# Altium footprint library PCP_ANT1.PcbLib: 11 footprints
Each footprint in its own frame and in the unit in brackets; x right, y up, seen from the top. Pads: shape width x height; smd on the part's side, far side on the other; paste and mask are expansions set on the pad; w line width, h text height; cw(c..) or ccw(c..) is an arc to the next point about the centre after c.
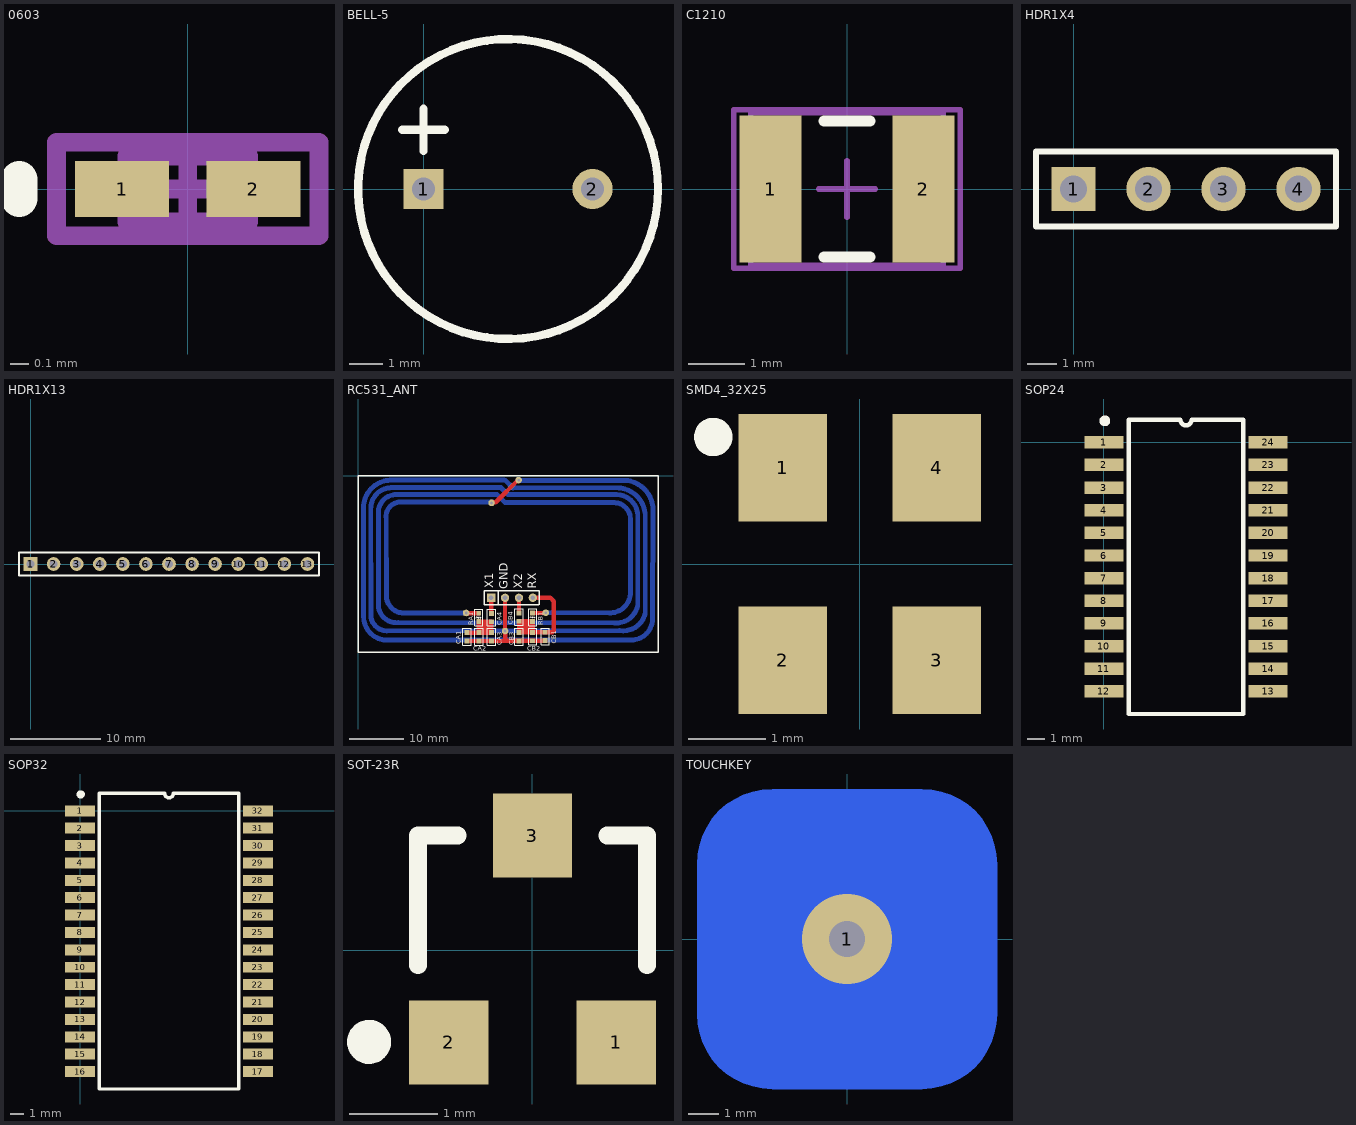
[diagram p0: the footprints below, top view; thin cyan lines are the x and y axes]

## 0603 [mm]
pads (2):
  rect 0.5x0.3 smd: 1(-0.35,0) 2(0.35,0)
Top Overlay:
  lines w0.2: -0.9,-0.05 -0.9,0.05
Mechanical 13:
  lines w0.1: -0.325,-0.175 0.325,-0.175 0.325,0.175 -0.325,0.175 -0.325,-0.175
Mechanical 15:
  lines w0.1: -0.175,0 0.175,0 ; 0,-0.175 0,0.175 ; -0.7,-0.25 0.7,-0.25 0.7,0.25 -0.7,0.25 -0.7,-0.25
3D body: height 0.55, standoff 0, extent -0.325,-0.175 0.325,0.175

## BELL-5 [mm]
pads (2):
  rect 1.2x1.2 hole 0.7: 1(0,0)
  round 1.2 hole 0.7: 2(5.08,0)
Top Overlay:
  circle w0.254: c2.54,0 r4.51
  lines w0.254: -0.635,1.778 0.635,1.778 ; 0,1.143 0,2.413

## C1210 [mm]
pads (2):
  rect 1.1x2.6 smd: 1(-1.35,0) 2(1.35,0)
Top Overlay:
  lines w0.2: -0.4,-1.2 0.4,-1.2 ; -0.4,1.2 0.4,1.2
Mechanical 13:
  lines w0.1: -1.7,-1.35 -1.7,1.35 1.7,1.35 1.7,-1.35 -1.7,-1.35
Mechanical 15:
  lines w0.1: -0.5,0 0.5,0 ; 0,-0.5 0,0.5 ; -2,-1.4 -2,1.4 2,1.4 2,-1.4 -2,-1.4
3D body: height 1.3, standoff 0, extent -1.7,-1.35 1.7,1.35

## HDR1X4 [mm]
pads (4):
  rect 1.5x1.5 hole 0.9: 1(0,0)
  round 1.5 hole 0.9: 2(2.54,0) 3(5.08,0) 4(7.62,0)
Top Overlay:
  lines w0.2: -1.27,-1.27 8.89,-1.27 8.89,1.27 -1.27,1.27 -1.27,-1.27

## HDR1X13 [mm]
pads (13):
  rect 1.5x1.5 hole 0.9: 1(0,0)
  round 1.5 hole 0.9: 2(2.54,0) 3(5.08,0) 4(7.62,0) 5(10.16,0) 6(12.7,0) 7(15.24,0) 8(17.78,0) 9(20.32,0) 10(22.86,0) 11(25.4,0) 12(27.94,0) 13(30.48,0)
Top Overlay:
  lines w0.2: -1.27,-1.27 31.75,-1.27 31.75,1.27 0.635,1.27 -1.27,1.27 -1.27,-1.27

## RC531_ANT [mil]
pads (29):
  rect 35x35 smd: 1(784.74,-1188.93) 1(869.08,-1049.93) 1(870.74,-1188.93) 1(959.74,-1188.93) 1(959.74,-1050.93) 1(1159.1,-1188.51) 1(1159.1,-1047.51) 1(1257.1,-1187.51) 1(1257.1,-1048.02) 1(1347.1,-1186.51) 2(784.74,-1128.93) 2(869.08,-989.93) 2(870.74,-1128.93) 2(959.74,-1128.93) 2(959.74,-990.93) 2(1159.1,-1128.51) 2(1159.1,-987.51) 2(1257.1,-1127.51) 2(1257.1,-988.02) 2(1347.1,-1126.51)
  round 47.24 hole 19.68: 3(778.1,-987.51) 3(1351.1,-985.51) 4(961.1,-195.46) 5(1156.1,-31.46) 6(1058.24,-1117.51)
  rect 60x60 hole 35: 10(958.24,-878.32)
  round 60 hole 35: 11(1058.24,-878.32) 12(1158.24,-878.32) 13(1258.1,-878.02)
Top Layer:
  rectangle: 880.09,-1128.92 949.09,-1050.92
  rectangle: 1168.07,-1117.51 1257.07,-1056.51
  lines w31.5: 780.52,-989.93 869.08,-989.93 ; 784.74,-1188.93 1058.68,-1188.93 ; 784.74,-1128.93 959.74,-1128.93 959.74,-1050.93 870.08,-1050.93 869.08,-1049.93 869.08,-1127.27 870.74,-1128.93 ; 960.1,-987.51 960.1,-895.67 ; 974.1,-190.97 990.84,-190.97 1147.84,-33.97 ; 1058.1,-1134.02 1058.24,-1133.87 1058.24,-878.32 ; 1058.24,-1188.49 1058.68,-1188.93 ; 1058.68,-1134.32 1058.68,-1188.93 ; 1158.24,-986.65 1158.24,-878.32 ; 1256.6,-1047.51 1159.1,-1047.51 1159.1,-1128.51 1161.1,-1126.51 1347.1,-1126.51 1400.1,-1126.51 1409.1,-1117.51 1409.1,-902.51 1384.6,-878.02 1258.1,-878.02 ; 1257.1,-1127.51 1257.1,-1048.02 ; 1257.1,-988.02 1348.6,-988.02 ; 1347.1,-1186.51 1345.1,-1188.51 1159.1,-1188.51 1059.1,-1188.51 1058.68,-1188.93
Bottom Layer:
  lines w10: 1351.1,-985.51 1351.6,-986.02
  lines w31.5: 1351.6,-986.02 1796.53,-986.02
  lines w35.43: 778.1,-987.51 329.18,-987.51 cw(c329.23,-862.18) 203.9,-862.13 203.06,-307.97 cw(c306.08,-292.99) 291.1,-189.97 973.1,-189.97 ; 1001.1,-135.97 264.1,-135.97 ccw(c275.01,-263.98) 147,-274.9 146.73,-939.44 ccw(c276.99,-926.72) 289.72,-1056.98 1832.7,-1057.96 ccw(c1858.55,-902.99) 2013.52,-928.84 2013.52,-280.46 ccw(c1858.78,-290.72) 1848.53,-135.97 ; 1003.1,-137.97 1052.1,-186.97 ; 1051.1,-31.97 1028.1,-31.97 230,-31.97 ccw(c238.28,-230.25) 40,-238.53 40.3,-1015.95 ccw(c210.15,-1013.1) 213,-1182.95 1968.47,-1182.95 ccw(c1964.38,-1027.67) 2119.66,-1023.58 2122.26,-222.97 ccw(c1908.26,-247.97) 1883.26,-33.97 1147.84,-33.97 ; 1057.73,-193.46 1130.1,-193.46 1846.53,-193.46 cw(c1841.53,-312.46) 1960.52,-317.46 1960.52,-854.02 cw(c1812.52,-838.02) 1796.53,-986.02 ; 1060.1,-32.97 1115.1,-87.97 ; 1079.1,-135.97 1029.1,-85.97 239,-85.97 ccw(c240.78,-234.75) 92,-236.53 92.3,-1011.44 ccw(c207.48,-1000.47) 218.45,-1115.65 1882.52,-1113.38 ccw(c1910.44,-956.3) 2067.52,-984.21 2067.52,-280.46 ccw(c1860.03,-293.96) 1846.53,-86.46 1117.1,-86.46 ; 1094.1,-135.97 1118.1,-135.97 1848.52,-135.97
Top Overlay:
  lines w4: 851.08,-1024.93 856.08,-1014.93 866.08,-1024.93 871.08,-1014.93 881.08,-1024.93 886.08,-1014.93 ; 1239.1,-1023.02 1244.1,-1013.02 1254.1,-1023.02 1259.1,-1013.02 1269.1,-1023.02 1274.1,-1013.02
  lines w6: 754.74,-1218.93 754.74,-1098.93 814.74,-1098.93 814.74,-1218.93 754.74,-1218.93 ; 839.08,-1079.93 839.08,-959.93 899.08,-959.93 899.08,-1079.93 839.08,-1079.93 ; 840.74,-1218.93 840.74,-1098.93 900.74,-1098.93 900.74,-1218.93 840.74,-1218.93 ; 929.74,-1218.93 929.74,-1098.93 989.74,-1098.93 989.74,-1218.93 929.74,-1218.93 ; 929.74,-1080.93 929.74,-960.93 989.74,-960.93 989.74,-1080.93 929.74,-1080.93 ; 1129.1,-1218.51 1129.1,-1098.51 1189.1,-1098.51 1189.1,-1218.51 1129.1,-1218.51 ; 1129.1,-1077.51 1129.1,-957.51 1189.1,-957.51 1189.1,-1077.51 1129.1,-1077.51 ; 1227.1,-1217.51 1227.1,-1097.51 1287.1,-1097.51 1287.1,-1217.51 1227.1,-1217.51 ; 1227.1,-1078.02 1227.1,-958.02 1287.1,-958.02 1287.1,-1078.02 1227.1,-1078.02 ; 1317.1,-1216.51 1317.1,-1096.51 1377.1,-1096.51 1377.1,-1216.51 1317.1,-1216.51
  lines w10: 289.1,-1270.02 1076.1,-1270.02 ; 1008.24,-928.32 1008.24,-828.32 ; 1208.24,-828.32 908.24,-828.32 908.24,-928.32 1208.24,-928.32 1298.8,-928.32 1300.1,-927.02 ; 1208.54,-828.02 1305.1,-828.02 1305.1,-928.02 ; 0,-1270.02 0,0 2158.13,0 2159.03,-0.9 2159.03,-1270.02 0,-1270.02
  text "X1" at 973.1,-810.02 h60
  text "GND" at 1079.1,-816.02 h60
  text "X2" at 1182.1,-813.02 h60
  text "RX" at 1283.1,-812.02 h60
  text "CA1" at 740.1,-1211.51 h35.43
  text "RA1" at 829.1,-1075.51 h35.43
  text "CA4" at 1034.1,-1074.51 h35.43
  text "CA3" at 1036.1,-1220.51 h35.43
  text "CB3" at 1120.1,-1219.51 h35.43
  text "CB4" at 1113.1,-1070.51 h35.43
  text "RB1" at 1330.1,-1074.51 h35.43
  text "CB1" at 1425.1,-1207.51 h35.43
  text "CA2" at 829.1,-1258.51 h35.43
  text "CB2" at 1219.1,-1258.51 h35.43

## SMD4_32X25 [mm]
pads (4):
  rect 1.15x1.4 smd: 1(-1,1.25) 2(-1,-1.25) 3(1,-1.25) 4(1,1.25)
Top Overlay:
  circle w0.25: c-1.903,1.651 r0.125

## SOP24 [mm]
pads (24):
  rect 2.2x0.7 smd: 1(0,0) 2(0,-1.27) 3(0,-2.54) 4(0,-3.81) 5(0,-5.08) 6(0,-6.35) 7(0,-7.62) 8(0,-8.89) 9(0,-10.16) 10(0,-11.43) 11(0,-12.7) 12(0,-13.97) 13(9.2,-13.97) 14(9.2,-12.7) 15(9.2,-11.43) 16(9.2,-10.16) 17(9.2,-8.89) 18(9.2,-7.62) 19(9.2,-6.35) 20(9.2,-5.08) 21(9.2,-3.81) 22(9.2,-2.54) 23(9.2,-1.27) 24(9.2,0)
Top Overlay:
  circle w0.3: c0.05,1.2 r0.15
  lines w0.25: 1.4,-15.235 1.4,1.265 4.282,1.265 ccw(c4.6,1.265) 4.917,1.265 7.8,1.265 7.8,-15.235 1.4,-15.235

## SOP32 [mm]
pads (32):
  rect 2.2x0.8 smd: 1(0,0) 2(0,-1.27) 3(0,-2.54) 4(0,-3.81) 5(0,-5.08) 6(0,-6.35) 7(0,-7.62) 8(0,-8.89) 9(0,-10.16) 10(0,-11.43) 11(0,-12.7) 12(0,-13.97) 13(0,-15.24) 14(0,-16.51) 15(0,-17.78) 16(0,-19.05) 17(13,-19.05) 18(13,-17.78) 19(13,-16.51) 20(13,-15.24) 21(13,-13.97) 22(13,-12.7) 23(13,-11.43) 24(13,-10.16) 25(13,-8.89) 26(13,-7.62) 27(13,-6.35) 28(13,-5.08) 29(13,-3.81) 30(13,-2.54) 31(13,-1.27) 32(13,0)
Top Overlay:
  circle w0.3: c0.05,1.2 r0.15
  lines w0.25: 1.4,-20.325 1.4,1.275 6.182,1.275 ccw(c6.5,1.275) 6.817,1.275 11.6,1.275 11.6,-20.325 1.4,-20.325

## SOT-23R [mm]
pads (3):
  rect 0.9x0.95 smd: 1(0.95,-1.048) 2(-0.95,-1.048) 3(0,1.302)
Top Overlay:
  circle w0.25: c-1.856,-1.041 r0.125
  lines w0.2: -1.3,-0.173 -1.3,1.302 -0.85,1.302 ; 0.85,1.302 1.3,1.302 1.3,-0.173

## TOUCHKEY [mm]
pads (1):
  rrect50% 10x10 smd far side: 1(0,0)
via 0,0 diameter 3 hole 1.2